# EAGLE library part TB6552 (library TB6552)
DUAL-BRIDGE DRIVER IC FOR DC MOTORS The TB6552FN/FNG/FL/FLG is a dual-bridge driver IC for DC motors with output transistors in an LD MOS structure with low ON-resistance. Two input signals, IN1 and IN2, can chose one of four modes such as CW, CCW, short brake, and stop mode. A PWM drive system supports high heat efficiency driving.
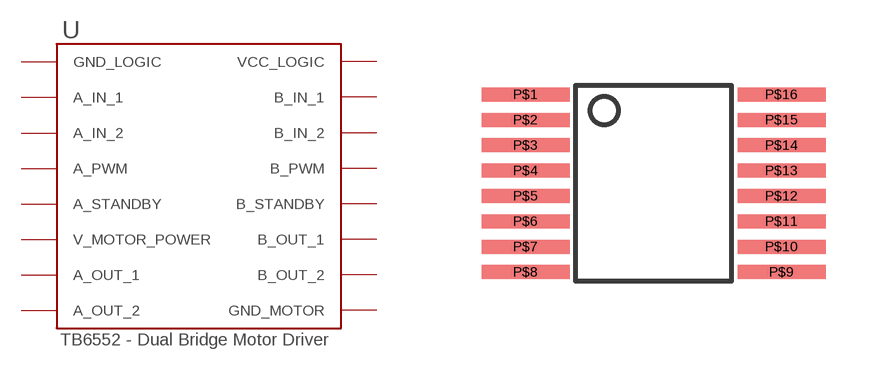
[diagram p0: symbol with the pads of SSOP16; footprint SSOP16]

Designator prefix -

## TB6552FN  [SSOP16]
P$1  GND_LOGIC  sup
P$2  A_IN_1
P$3  A_IN_2
P$4  A_PWM
P$5  A_STANDBY
P$6  V_MOTOR_POWER  sup
P$7  A_OUT_1
P$8  A_OUT_2
P$9  GND_MOTOR  sup
P$10  B_OUT_2
P$11  B_OUT_1
P$12  B_STANDBY
P$13  B_PWM
P$14  B_IN_2
P$15  B_IN_1
P$16  VCC_LOGIC  sup

## Footprint SSOP16 (pad centres in mm)
smd 2.2 x 0.35: P$1 -3.2,2.223; P$2 -3.2,1.587; P$3 -3.2,0.953; P$4 -3.2,0.318; P$5 -3.2,-0.318; P$6 -3.2,-0.953; P$7 -3.2,-1.587; P$8 -3.2,-2.223; P$9 3.2,-2.223; P$10 3.2,-1.587; P$11 3.2,-0.953; P$12 3.2,-0.318; P$13 3.2,0.318; P$14 3.2,0.953; P$15 3.2,1.587; P$16 3.2,2.223